# Altium schematic symbol library BeagleBoneCape.SchLib: 6 symbols
Pins are listed as number, name and electrical type; pins without a type are passive.

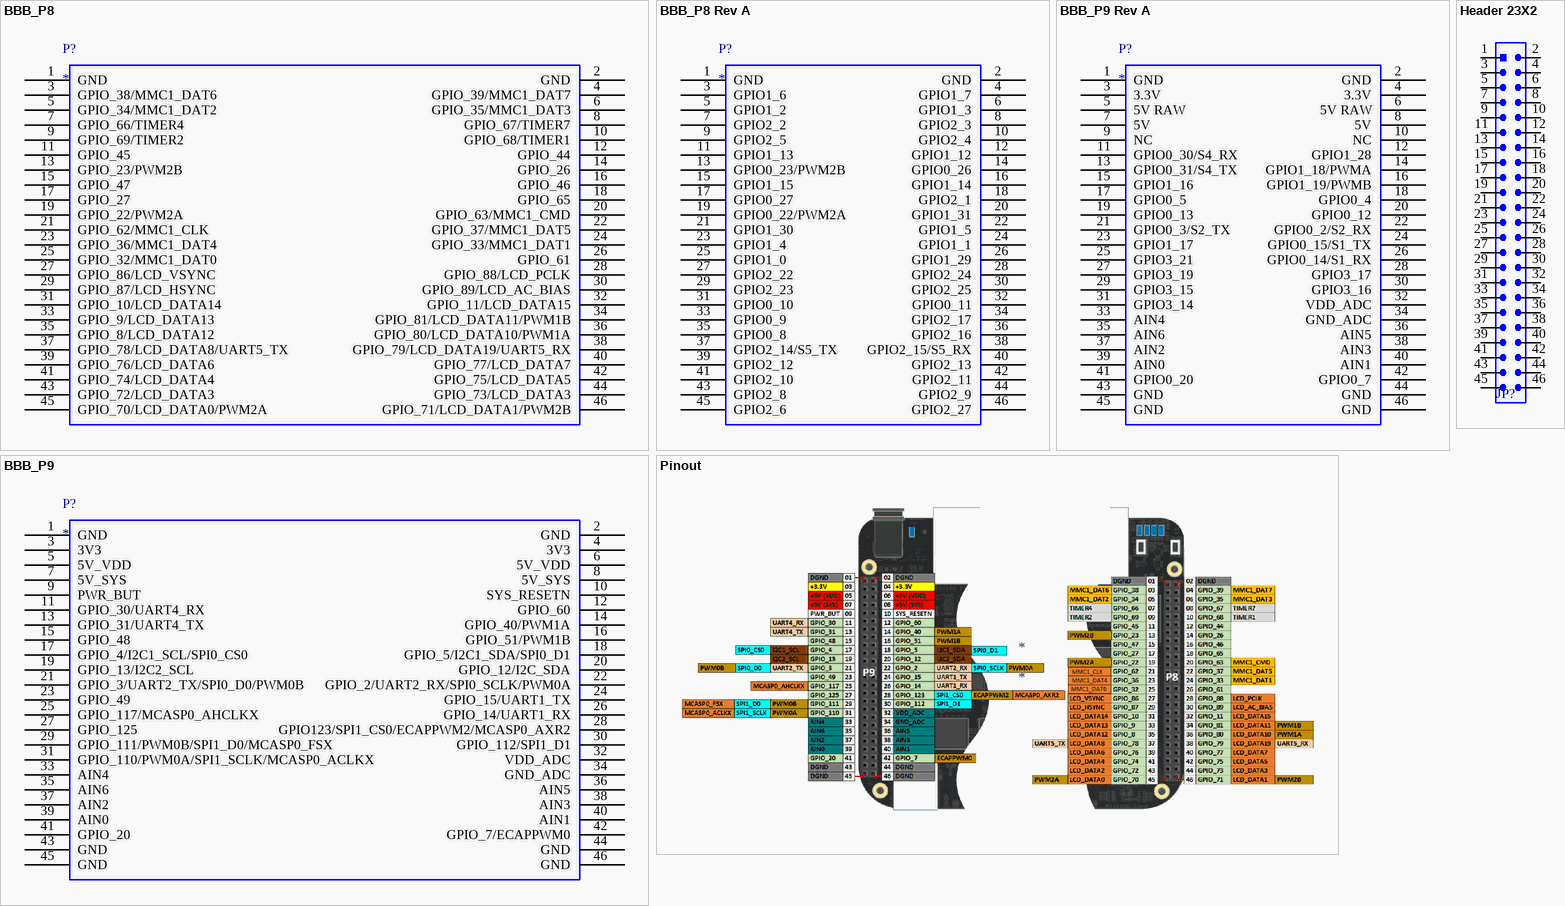
[diagram p0: symbols BBB_P8 to Pinout]

## BBB_P8
designator P?
Rev C
footprint BBB_CAPE_HEADER - 2X23 (46-pin male header for BeagleBone Black P8,P9)
footprint BBB_CAPE_HEADER - 2X23_M (46-pin male header for BeagleBone Black P8,P9)
pins: 1 GND, 2 GND, 3 GPIO_38/MMC1_DAT6, 4 GPIO_39/MMC1_DAT7, 5 GPIO_34/MMC1_DAT2, 6 GPIO_35/MMC1_DAT3, 7 GPIO_66/TIMER4, 8 GPIO_67/TIMER7, 9 GPIO_69/TIMER2, 10 GPIO_68/TIMER1, 11 GPIO_45, 12 GPIO_44, 13 GPIO_23/PWM2B, 14 GPIO_26, 15 GPIO_47, 16 GPIO_46, 17 GPIO_27, 18 GPIO_65, 19 GPIO_22/PWM2A, 20 GPIO_63/MMC1_CMD, 21 GPIO_62/MMC1_CLK, 22 GPIO_37/MMC1_DAT5, 23 GPIO_36/MMC1_DAT4, 24 GPIO_33/MMC1_DAT1, 25 GPIO_32/MMC1_DAT0, 26 GPIO_61, 27 GPIO_86/LCD_VSYNC, 28 GPIO_88/LCD_PCLK, 29 GPIO_87/LCD_HSYNC, 30 GPIO_89/LCD_AC_BIAS, 31 GPIO_10/LCD_DATA14, 32 GPIO_11/LCD_DATA15, 33 GPIO_9/LCD_DATA13, 34 GPIO_81/LCD_DATA11/PWM1B, 35 GPIO_8/LCD_DATA12, 36 GPIO_80/LCD_DATA10/PWM1A, 37 GPIO_78/LCD_DATA8/UART5_TX, 38 GPIO_79/LCD_DATA19/UART5_RX, 39 GPIO_76/LCD_DATA6, 40 GPIO_77/LCD_DATA7, 41 GPIO_74/LCD_DATA4, 42 GPIO_75/LCD_DATA5, 43 GPIO_72/LCD_DATA3, 44 GPIO_73/LCD_DATA3, 45 GPIO_70/LCD_DATA0/PWM2A, 46 GPIO_71/LCD_DATA1/PWM2B

## BBB_P8 Rev A
designator P?
Rev A
footprint BBB_CAPE_HEADER - 2X23 (46-pin male header for BeagleBone Black P8,P9)
footprint BBB_CAPE_HEADER - 2X23_M (46-pin male header for BeagleBone Black P8,P9)
pins: 1 GND, 2 GND, 3 GPIO1_6, 4 GPIO1_7, 5 GPIO1_2, 6 GPIO1_3, 7 GPIO2_2, 8 GPIO2_3, 9 GPIO2_5, 10 GPIO2_4, 11 GPIO1_13, 12 GPIO1_12, 13 GPIO0_23/PWM2B, 14 GPIO0_26, 15 GPIO1_15, 16 GPIO1_14, 17 GPIO0_27, 18 GPIO2_1, 19 GPIO0_22/PWM2A, 20 GPIO1_31, 21 GPIO1_30, 22 GPIO1_5, 23 GPIO1_4, 24 GPIO1_1, 25 GPIO1_0, 26 GPIO1_29, 27 GPIO2_22, 28 GPIO2_24, 29 GPIO2_23, 30 GPIO2_25, 31 GPIO0_10, 32 GPIO0_11, 33 GPIO0_9, 34 GPIO2_17, 35 GPIO0_8, 36 GPIO2_16, 37 GPIO2_14/S5_TX, 38 GPIO2_15/S5_RX, 39 GPIO2_12, 40 GPIO2_13, 41 GPIO2_10, 42 GPIO2_11, 43 GPIO2_8, 44 GPIO2_9, 45 GPIO2_6, 46 GPIO2_27

## BBB_P9
designator P?
Rev C
footprint BBB_CAPE_HEADER - 2X23_M (46-pin male header for BeagleBone Black P8,P9)
footprint BBB_CAPE_HEADER - 2X23 (46-pin male header for BeagleBone Black P8,P9)
pins: 1 GND, 2 GND, 3 3V3, 4 3V3, 5 5V_VDD, 6 5V_VDD, 7 5V_SYS, 8 5V_SYS, 9 PWR_BUT, 10 SYS_RESETN, 11 GPIO_30/UART4_RX, 12 GPIO_60, 13 GPIO_31/UART4_TX, 14 GPIO_40/PWM1A, 15 GPIO_48, 16 GPIO_51/PWM1B, 17 GPIO_4/I2C1_SCL/SPI0_CS0, 18 GPIO_5/I2C1_SDA/SPI0_D1, 19 GPIO_13/I2C2_SCL, 20 GPIO_12/I2C_SDA, 21 GPIO_3/UART2_TX/SPI0_D0/PWM0B, 22 GPIO_2/UART2_RX/SPI0_SCLK/PWM0A, 23 GPIO_49, 24 GPIO_15/UART1_TX, 25 GPIO_117/MCASP0_AHCLKX, 26 GPIO_14/UART1_RX, 27 GPIO_125, 28 GPIO123/SPI1_CS0/ECAPPWM2/MCASP0_AXR2, 29 GPIO_111/PWM0B/SPI1_D0/MCASP0_FSX, 30 GPIO_112/SPI1_D1, 31 GPIO_110/PWM0A/SPI1_SCLK/MCASP0_ACLKX, 32 VDD_ADC, 33 AIN4, 34 GND_ADC, 35 AIN6, 36 AIN5, 37 AIN2, 38 AIN3, 39 AIN0, 40 AIN1, 41 GPIO_20, 42 GPIO_7/ECAPPWM0, 43 GND, 44 GND, 45 GND, 46 GND

## BBB_P9 Rev A
designator P?
Rev A
footprint BBB_CAPE_HEADER - 2X23_M (46-pin male header for BeagleBone Black P8,P9)
footprint BBB_CAPE_HEADER - 2X23 (46-pin male header for BeagleBone Black P8,P9)
pins: 1 GND, 2 GND, 3 3.3V, 4 3.3V, 5 5V RAW, 6 5V RAW, 7 5V, 8 5V, 9 NC, 10 NC, 11 GPIO0_30/S4_RX, 12 GPIO1_28, 13 GPIO0_31/S4_TX, 14 GPIO1_18/PWMA, 15 GPIO1_16, 16 GPIO1_19/PWMB, 17 GPIO0_5, 18 GPIO0_4, 19 GPIO0_13, 20 GPIO0_12, 21 GPIO0_3/S2_TX, 22 GPIO0_2/S2_RX, 23 GPIO1_17, 24 GPIO0_15/S1_TX, 25 GPIO3_21, 26 GPIO0_14/S1_RX, 27 GPIO3_19, 28 GPIO3_17, 29 GPIO3_15, 30 GPIO3_16, 31 GPIO3_14, 32 VDD_ADC, 33 AIN4, 34 GND_ADC, 35 AIN6, 36 AIN5, 37 AIN2, 38 AIN3, 39 AIN0, 40 AIN1, 41 GPIO0_20, 42 GPIO0_7, 43 GND, 44 GND, 45 GND, 46 GND

## Header 23X2
designator JP?  (value not drawn)
23*2P Connector; BOM名称: 20*2P接插件; 版权归属: 源创客; 学习资源: www.ooocke.com
footprint BBB_CAPE_HEADER - 2X23_M (46-pin male header for BeagleBone Black P8,P9)
footprint BBB_CAPE_HEADER - 2X23 (46-pin male header for BeagleBone Black P8,P9)
pins: 1, 2, 3, 4, 5, 6, 7, 8, 9, 10, 11, 12, 13, 14, 15, 16, 17, 18, 19, 20, 21, 22, 23, 24, 25, 26, 27, 28, 29, 30, 31, 32, 33, 34, 35, 36, 37, 38, 39, 40, 41, 42, 43, 44, 45, 46

## Pinout
designator *
Rev C